# Altium schematic symbol library TestPoint.SchLib: 9 symbols
Pins are listed as number, name and electrical type; pins without a type are passive.

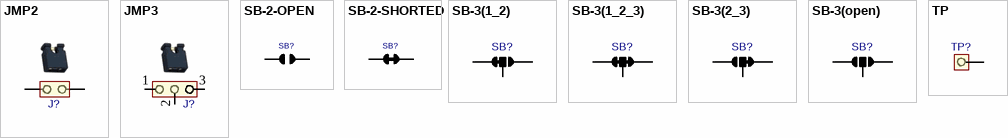
[diagram p0: symbols JMP2 to TP]

## JMP2
designator J?, comment HDR 2  (value not drawn)
Jumper; Value: PLS-2
footprint PLS-2 (Connector; Header; 2 Position)
pins: 1, 2

## JMP3
designator J?, comment HDR 3  (value not drawn)
Jumper 2 positions; Value: PLS-3
footprint PLS-3 (Connector; Header; 3 Position)
pins: 1, 2, 3

## SB-2-OPEN
designator SB?, comment Solder Bridge Open  (value not drawn)
Solder jumper 2 positions; Value: N/A
footprint SBR-2 (SolderJumper; 2 Positions)
pins: 1, 2

## SB-2-SHORTED
designator SB?, comment Solder Bridge Shorted  (value not drawn)
Solder jumper 2 positions; Value: N/A
footprint SBR-2-SHORTED (SolderJumper; 2 Positions)
pins: 1, 2

## SB-3(1_2)
designator SB?, comment Solder Bridge Open  (value not drawn)
Solder Bridge 3 positions; Value: N/A
footprint SBR-3-SHORTED-1-2 (SolderJumper; 3 Positions)
pins: 1, 2, 3

## SB-3(1_2_3)
designator SB?, comment Solder Bridge Shorted 1-2-3  (value not drawn)
Solder jumper 3 positions; Value: N/A
footprint SBR-3-SHORTED-1-2-3 (SolderJumper; 3 Positions)
pins: 1, 2, 3

## SB-3(2_3)
designator SB?, comment Solder Bridge Shorted 2-3  (value not drawn)
Solder Bridge 3 positions; Value: N/A
footprint SBR-3-SHORTED-2-3 (SolderJumper; 3 Positions)
pins: 1, 2, 3

## SB-3(open)
designator SB?, comment Solder Bridge Open  (value not drawn)
Solder Bridge 3 positions; Value: N/A
footprint SBR-3 (SolderJumper; 3 Positions)
pins: 1, 2, 3

## TP
designator TP?, comment HDR1  (value not drawn)
Test point; Value: PLS-1
footprint PLS-1 (Connector; Plug)
pins: 1